# Altium footprint library Buttons.PcbLib: 2 footprints
Each footprint in its own frame and in the unit in brackets; x right, y up, seen from the top. Pads: shape width x height; smd on the part's side, far side on the other; paste and mask are expansions set on the pad; w line width, h text height; cw(c..) or ccw(c..) is an arc to the next point about the centre after c.
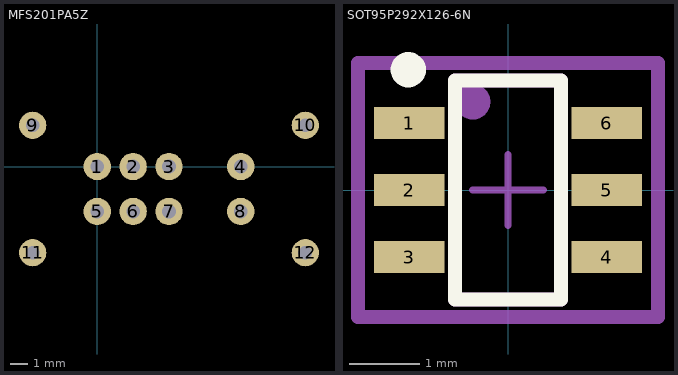
[diagram p0: the footprints below, top view; thin cyan lines are the x and y axes]

## MFS201PA5Z [mil]
pads (12):
  round 60 hole 30: 1(0,0) 2(78.74,0) 3(157.48,0) 4(314.96,0) 5(0,-98.43) 6(78.74,-98.43) 7(157.48,-98.43) 8(314.96,-98.43) 9(-141.73,90.55) 10(456.69,90.55) 11(-141.73,-188.98) 12(456.69,-188.98)
3D body "MFS201PA-5-Z.stp": height 275.59, standoff -98.43, extent -158.46,-195.86 471.46,99.42

## SOT95P292X126-6N [mm] "SOT23, 6-Leads, Body 3,00x2,93mm, Pitch 0,95mm, IPC Medium Density"
height 1.26
pads (6):
  rect 1x0.45 smd: 1(-1.4,0.95) 2(-1.4,0) 3(-1.4,-0.95) 4(1.4,-0.95) 5(1.4,0) 6(1.4,0.95)
Top Overlay:
  circle w0.25: c-1.413,1.705 r0.125
  lines w0.2: -0.75,-1.55 0.75,-1.55 0.75,1.55 -0.75,1.55 -0.75,-1.55
Top Assembly:
  circle w0.25: c-0.5,1.25 r0.125
  lines w0.2: -0.75,-1.55 -0.75,1.55 0.75,1.55 0.75,-1.55 -0.75,-1.55
Mechanical 15:
  lines w0.1: -0.5,0 0.5,0 ; 0,-0.5 0,0.5
  lines w0.2: -2.125,-1.8 -2.125,1.8 2.125,1.8 2.125,-1.8 -2.125,-1.8
3D body "SOT95P292X126-6N.step": height 1.26, standoff 0, extent -1.5,-1.55 1.5,1.55